# Altium footprint library GPS13740.PcbLib: 1 footprints
Each footprint in its own frame and in the unit in brackets; x right, y up, seen from the top. Pads: shape width x height; smd on the part's side, far side on the other; paste and mask are expansions set on the pad; w line width, h text height; cw(c..) or ccw(c..) is an arc to the next point about the centre after c.
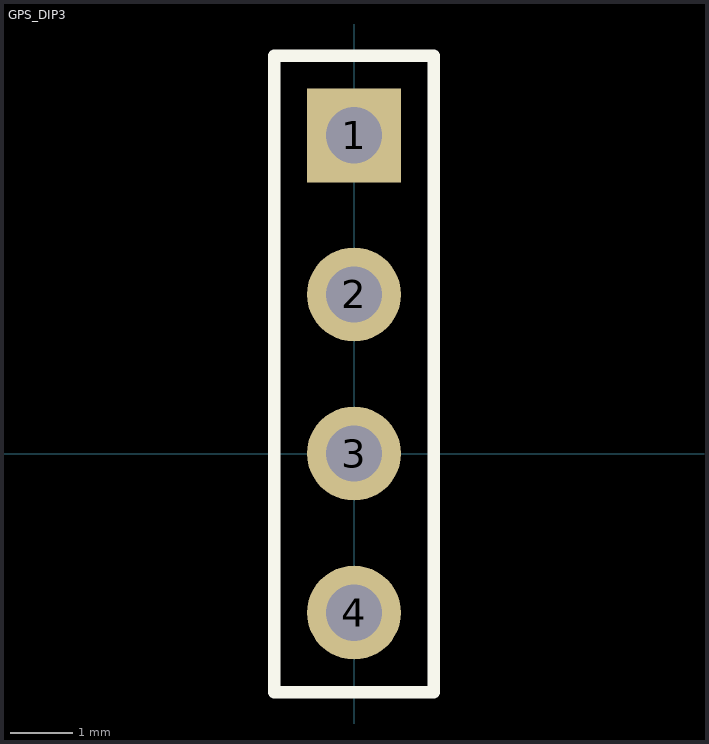
[diagram p0: the footprint, top view; thin cyan lines are the x and y axes]

## GPS_DIP3 [mm]
pads (4):
  rect 1.5x1.5 hole 0.9: 1(0,5.08)
  round 1.5 hole 0.9: 2(0,2.54) 3(0,0) 4(0,-2.54)
Top Overlay:
  lines w0.2: -1.27,-3.81 1.27,-3.81 1.27,6.35 -1.27,6.35 -1.27,-3.81